# Altium footprint library SX1301DVK_e286v01a.PcbLib: 110 footprints (part 3 of 7)
Each footprint in its own frame and in the unit in brackets; x right, y up, seen from the top. Pads: shape width x height; smd on the part's side, far side on the other; paste and mask are expansions set on the pad; w line width, h text height; cw(c..) or ccw(c..) is an arc to the next point about the centre after c.
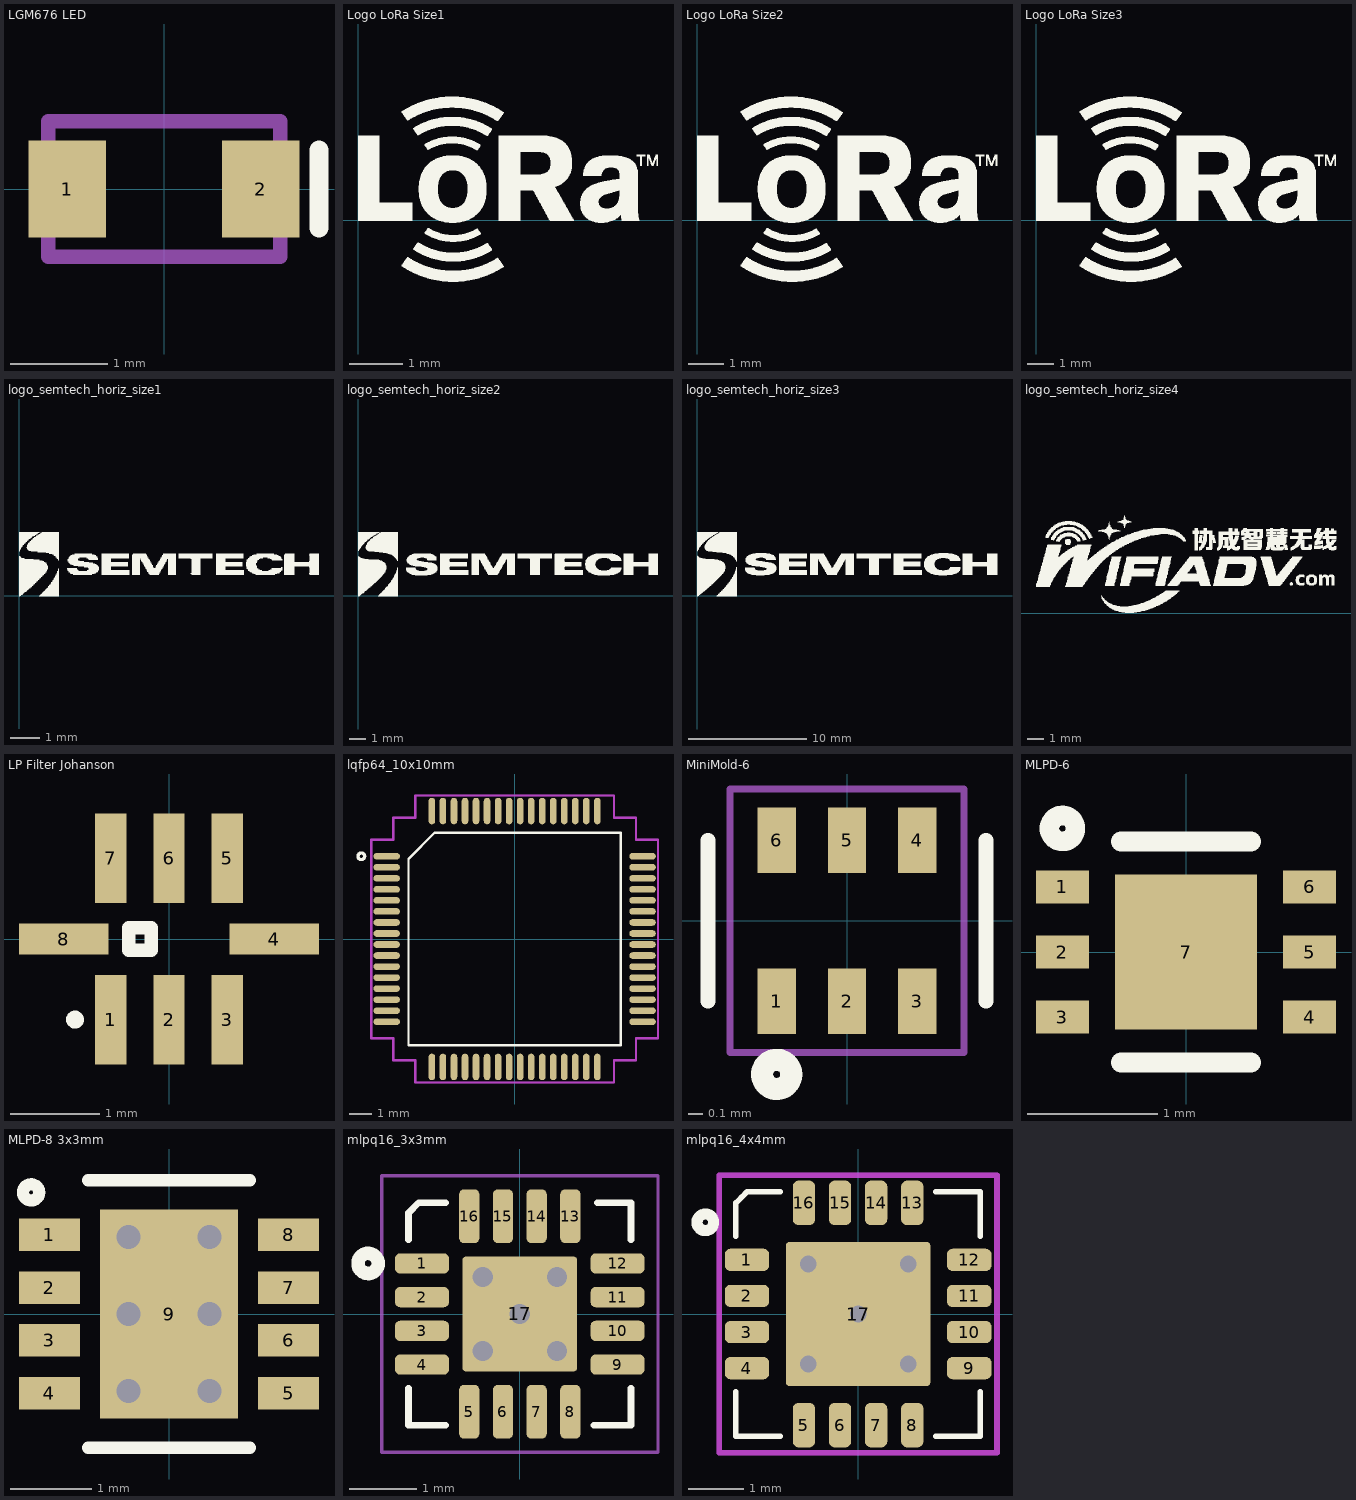
[diagram p2: the footprints below, top view; thin cyan lines are the x and y axes]

## LGM676 LED [mm] "Chip Diode; Body 2.1 x 1.4 mm (LxW typ)"
height 1.1
pads (2):
  rect 0.8x1 smd mask+0.05: 1(-1,0) 2(1,0)
Top Overlay:
  lines w0.2: 1.6,-0.4 1.6,0.4
Mechanical 15:
  lines w0.15: -1.2,-0.7 1.2,-0.7 1.2,0.7 -1.2,0.7 -1.2,-0.7
3D body: height 12, standoff 0, extent -1.2,-0.7 1.2,0.7

## Logo LoRa Size1 [mm] "Logo LoRa Size1 - Top Overlay"
Top Overlay:
  drawing of 2375 lines, arcs and shapes, not listed

## Logo LoRa Size2 [mm] "Logo LoRa Size2 - Top Overlay"
Top Overlay:
  drawing of 2374 lines, arcs and shapes, not listed

## Logo LoRa Size3 [mm] "Logo LoRa Size3 - Top Overlay"
Top Overlay:
  drawing of 2375 lines, arcs and shapes, not listed

## Logo LoRa Size4 [mm] "Logo LoRa Size4 - Top Overlay"

## logo_semtech_horiz_size1 [mm] "Logo semtech horizontal - size1 - S"
Top Overlay:
  drawing of 453 lines, arcs and shapes, not listed

## logo_semtech_horiz_size2 [mm] "Logo semtech horizontal - size2 - M"
Top Overlay:
  drawing of 790 lines, arcs and shapes, not listed

## logo_semtech_horiz_size3 [mm] "Logo semtech horizontal - size3 - L"
Top Overlay:
  drawing of 1137 lines, arcs and shapes, not listed

## logo_semtech_horiz_size4 [mm] "Logo semtech horizontal - size4 - XL"
Top Overlay:
  drawing of 3065 lines, arcs and shapes, not listed

## LP Filter Johanson [mm] "Low Pass Filter ; Body 2.00 x 1.25 mm (LxW max)"
height 0.5
pads (8):
  rect 0.35x1 smd mask+0.05: 1(-0.65,-0.9) 2(0,-0.9) 3(0.65,-0.9) 5(0.65,0.9) 6(0,0.9) 7(-0.65,0.9)
  rect 1x0.35 smd mask+0.05: 4(1.175,0) 8(-1.175,0)
Top Overlay:
  circle w0.1: c-1.05,-0.9 r0.05
  lines w0.15: -0.45,-0.125 -0.2,-0.125 -0.2,0.125 -0.45,0.125 -0.45,-0.125
3D body: height 12, standoff 0, extent -1,-0.625 1,0.625

## lqfp64_10x10mm [mm] "64 Leads, Body 10.0x10.0mm, Pitch 0.50mm, LQFP64"
height 1.5
pads (64):
  oval 1.2x0.3 smd mask+0.05: 1(-5.8,3.75) 2(-5.8,3.25) 3(-5.8,2.75) 4(-5.8,2.25) 5(-5.8,1.75) 6(-5.8,1.25) 7(-5.8,0.75) 8(-5.8,0.25) 9(-5.8,-0.25) 10(-5.8,-0.75) 11(-5.8,-1.25) 12(-5.8,-1.75) 13(-5.8,-2.25) 14(-5.8,-2.75) 15(-5.8,-3.25) 16(-5.8,-3.75) 33(5.8,-3.75) 34(5.8,-3.25) 35(5.8,-2.75) 36(5.8,-2.25) 37(5.8,-1.75) 38(5.8,-1.25) 39(5.8,-0.75) 40(5.8,-0.25) 41(5.8,0.25) 42(5.8,0.75) 43(5.8,1.25) 44(5.8,1.75) 45(5.8,2.25) 46(5.8,2.75) 47(5.8,3.25) 48(5.8,3.75)
  oval 0.3x1.2 smd mask+0.05: 17(-3.75,-5.8) 18(-3.25,-5.8) 19(-2.75,-5.8) 20(-2.25,-5.8) 21(-1.75,-5.8) 22(-1.25,-5.8) 23(-0.75,-5.8) 24(-0.25,-5.8) 25(0.25,-5.8) 26(0.75,-5.8) 27(1.25,-5.8) 28(1.75,-5.8) 29(2.25,-5.8) 30(2.75,-5.8) 31(3.25,-5.8) 32(3.75,-5.8) 49(3.75,5.8) 50(3.25,5.8) 51(2.75,5.8) 52(2.25,5.8) 53(1.75,5.8) 54(1.25,5.8) 55(0.75,5.8) 56(0.25,5.8) 57(-0.25,5.8) 58(-0.75,5.8) 59(-1.25,5.8) 60(-1.75,5.8) 61(-2.25,5.8) 62(-2.75,5.8) 63(-3.25,5.8) 64(-3.75,5.8)
Top Overlay:
  circle w0.15: c-6.95,3.75 r0.15
  lines w0.1: -4.815,-4.815 -4.815,3.63 -3.63,4.815 4.815,4.815 4.815,-4.815 -4.815,-4.815
Mechanical 15 keep-out:
  lines w0.1: -6.5,-4.5 -6.5,4.5 -5.5,4.5 -5.5,5.5 -4.5,5.5 -4.5,6.5 -4,6.5 4.5,6.5 4.5,5.5 5.5,5.5 5.5,4.5 6.5,4.5 6.5,-4.5 5.5,-4.5 5.5,-5.5 4.5,-5.5 4.5,-6.5 -4.5,-6.5 -4.5,-5.5 -5.5,-5.5 -5.5,-4.5 -6.5,-4.5
3D body: height 1.5, standoff 0.05, extent -5,-5 5,5

## MiniMold-6 [mm] "MiniMold-6 Package 1.5x1.1mm"
height 0.55
pads (6):
  rect 0.26x0.45 smd mask+0.05: 1(-0.48,-0.55) 2(0,-0.55) 3(0.48,-0.55) 4(0.48,0.55) 5(0,0.55) 6(-0.48,0.55)
Top Overlay:
  circle w0.15: c-0.48,-1.05 r0.1
  lines w0.1: -0.95,-0.55 -0.95,0.55 ; 0.95,-0.55 0.95,0.55
Mechanical 15:
  lines w0.05: -0.8,-0.9 0.8,-0.9 0.8,0.9 -0.8,0.9 -0.8,-0.9
3D body: height 1, standoff 0, extent -0.75,-0.55 0.75,0.55

## MLPD-6 [mil] "MLPD-6; 2.0x1.5mm; 0.5mm pitch"
height 31.5
pads (7):
  rect 16x10 smd mask+1.97: 1(-37.4,19.69) 2(-37.4,0) 3(-37.4,-19.69) 4(37.4,-19.69) 5(37.4,0) 6(37.4,19.69)
  rect 43x47 smd mask+1.97: 7(0,0)
Top Overlay:
  circle w5.91: c-37.4,37.4 r3.94
  lines w6: -19.68,-33.46 19.68,-33.46 ; -19.68,33.46 19.68,33.46
3D body: height 39.37, standoff 0, extent -39.37,-29.53 39.37,29.53

## MLPD-8 3x3mm [mm] "MLPD-8; 3.0x3.0mm; 0.65mm pitch"
height 0.8
pads (9):
  rect 0.75x0.4 smd mask+0.05: 1(-1.475,0.975) 2(-1.475,0.325) 3(-1.475,-0.325) 4(-1.475,-0.975) 5(1.475,-0.975) 6(1.475,-0.325) 7(1.475,0.325) 8(1.475,0.975)
  rect 1.7x2.58 smd paste+0 mask+0.05: 9(0,0)
via 0.5,-0.95 diameter 0.6 hole 0.3
via -0.5,0 diameter 0.6 hole 0.3
via 0.5,0.95 diameter 0.6 hole 0.3
via -0.5,-0.95 diameter 0.6 hole 0.3
via 0.5,0 diameter 0.6 hole 0.3
via -0.5,0.95 diameter 0.6 hole 0.3
Top Overlay:
  circle w0.15: c-1.7,1.5 r0.1
  lines w0.15: -1,-1.65 1,-1.65 ; -1,1.65 1,1.65
3D body: height 1, standoff 0, extent -1.5,-1.5 1.5,1.5

## mlpq16_3x3mm [mm] "16 Leads, Body 3.0x3.0mm, Pitch 0.50mm, MLPQ16"
height 1
pads (17):
  rrect50% 0.8x0.3 smd mask+0.05: 1(-1.45,0.75) 2(-1.45,0.25) 3(-1.45,-0.25) 4(-1.45,-0.75) 9(1.45,-0.75) 10(1.45,-0.25) 11(1.45,0.25) 12(1.45,0.75)
  rrect50% 0.3x0.8 smd mask+0.05: 5(-0.75,-1.45) 6(-0.25,-1.45) 7(0.25,-1.45) 8(0.75,-1.45) 13(0.75,1.45) 14(0.25,1.45) 15(-0.25,1.45) 16(-0.75,1.45)
  rrect5% 1.7x1.7 smd paste-1.7 mask+0.05: 17(0,0)
via 0,0 diameter 0.5 hole 0.3
via -0.55,-0.55 diameter 0.5 hole 0.3
via 0.55,-0.55 diameter 0.5 hole 0.3
via 0.55,0.55 diameter 0.5 hole 0.3
via -0.55,0.55 diameter 0.5 hole 0.3
Top Overlay:
  circle w0.2: c-2.25,0.75 r0.15
  lines w0.1: -1.65,-1.1 -1.65,-1.65 -1.1,-1.65 ; -1.65,1.1 -1.65,1.5 -1.5,1.65 -1.1,1.65 ; 1.1,-1.65 1.65,-1.65 1.65,-1.1 ; 1.15,1.65 1.65,1.65 1.65,1.1
Top Paste:
  region: 0.3,0.25 0.3,-0.25 0.8,-0.25 0.8,0.25
  region: -0.25,-0.3 -0.25,-0.8 0.25,-0.8 0.25,-0.3
  region: -0.8,0.25 -0.8,-0.25 -0.3,-0.25 -0.3,0.25
  region: -0.25,0.8 -0.25,0.3 0.25,0.3 0.25,0.8
Mechanical 15:
  lines w0.05: -2.05,-2.05 2.05,-2.05 2.05,2.05 -2.05,2.05 -2.05,-2.05
3D body: height 0, standoff 0, extent -1.5,-1.5 1.5,1.5

## mlpq16_4x4mm [mm] "16 Leads, Body 4.0x4.0mm, Pitch 0.65mm, MLPQ16 - modifs pads size"
height 1
pads (17):
  rrect50% 0.8x0.4 smd mask+0.05: 1(-2,0.975) 2(-2,0.325) 3(-2,-0.325) 4(-2,-0.975) 9(2,-0.975) 10(2,-0.325) 11(2,0.325)
  rrect50% 0.4x0.8 smd mask+0.05: 5(-0.975,-2) 6(-0.325,-2) 7(0.325,-2) 8(0.975,-2) 13(0.975,2) 14(0.325,2) 15(-0.325,2) 16(-0.975,2)
  rrect50% 0.8x0.4 smd paste+0 mask+0.05: 12(2,0.975)
  rrect5% 2.6x2.6 smd paste-2.3 mask+0.05: 17(0,0)
via 0,0 diameter 0.5 hole 0.3
via 0.9,-0.9 diameter 0.5 hole 0.3
via -0.9,-0.9 diameter 0.5 hole 0.3
via -0.9,0.9 diameter 0.5 hole 0.3
via 0.9,0.9 diameter 0.5 hole 0.3
Top Overlay:
  circle w0.2: c-2.75,1.65 r0.15
  lines w0.1: -2.2,-1.4 -2.2,-2.2 -1.4,-2.2 ; -2.2,1.4 -2.2,2 -2.1,2.1 -2,2.2 -1.4,2.2 ; 1.4,-2.2 2.2,-2.2 2.2,-1.4 ; 1.4,2.2 2.2,2.2 2.2,1.4
Top Paste:
  region: 0.35,0.45 0.35,1.2 -0.35,1.2 -0.35,0.45
  region: 1.2,0.35 0.45,0.35 0.45,-0.35 1.2,-0.35
  region: 0.35,-1.2 0.35,-0.45 -0.35,-0.45 -0.35,-1.2
  region: -1.2,0.35 -0.45,0.35 -0.45,-0.35 -1.2,-0.35
Mechanical 15 keep-out:
  lines w0.1: -2.5,-2.5 2.5,-2.5 2.5,2.5 -2.5,2.5 -2.5,-2.5
3D body: height 1, standoff 0.05, extent -2,-2 2,2